# EAGLE library part WM7230 (library Wolfsom)
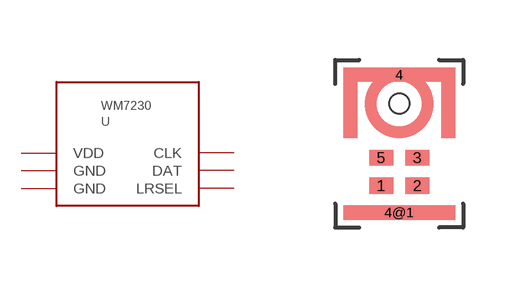
[diagram p0: symbol with the pads of WM7230; footprint WM7230]

Designator prefix U

## WM7230  [WM7230]
1  CLK
2  DAT
3  VDD
4  GND
4@1  GND
5  LRSEL

## Footprint WM7230 (pad centres in mm)
smd 0.6 x 0.4: 1 1.05,0.95; 2 1.95,0.95; 3 1.95,1.65; 5 1.05,1.65
smd 2.8 x 0.35: 4 1.5,3.725; 4@1 1.5,0.275
hole 0.5 at 1.5,3